# EAGLE library part P82B96D (library semiconductors)
DUAL BIDIRECTIONAL BUS BUFFER
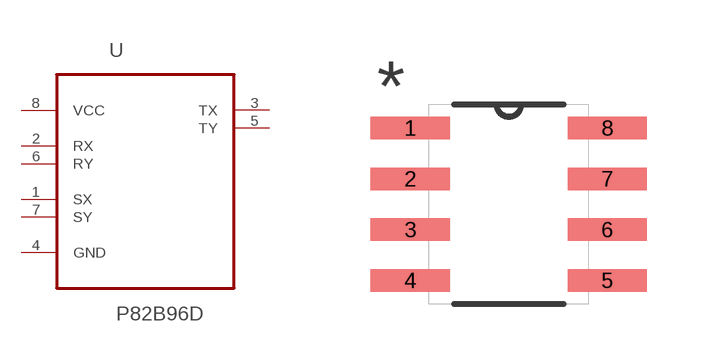
[diagram p3: symbol with the pads of SOIC127P600X175-8N; footprint SOIC127P600X175-8N]

Designator prefix U

## P82B96D (MPN: P82B96D; OC_FARNELL: Unknown; OC_NEWARK: 88K6383; PACKAGE: SOIC-8; SUPPLIER: Texas Instruments)  [SOIC127P600X175-8N]
1  SX  in
2  RX  in
3  TX  out
4  GND  pas
5  TY  out
6  RY  in
7  SY  in
8  VCC  pwr

## Footprint SOIC127P600X175-8N (pad centres in mm)
smd 1.981 x 0.559: 1 -2.464,1.905; 2 -2.464,0.635; 3 -2.464,-0.635; 4 -2.464,-1.905; 5 2.464,-1.905; 6 2.464,-0.635; 7 2.464,0.635; 8 2.464,1.905